# Altium schematic symbol library 传感器和模块.SchLib: 18 symbols
Pins are listed as number, name and electrical type; pins without a type are passive.

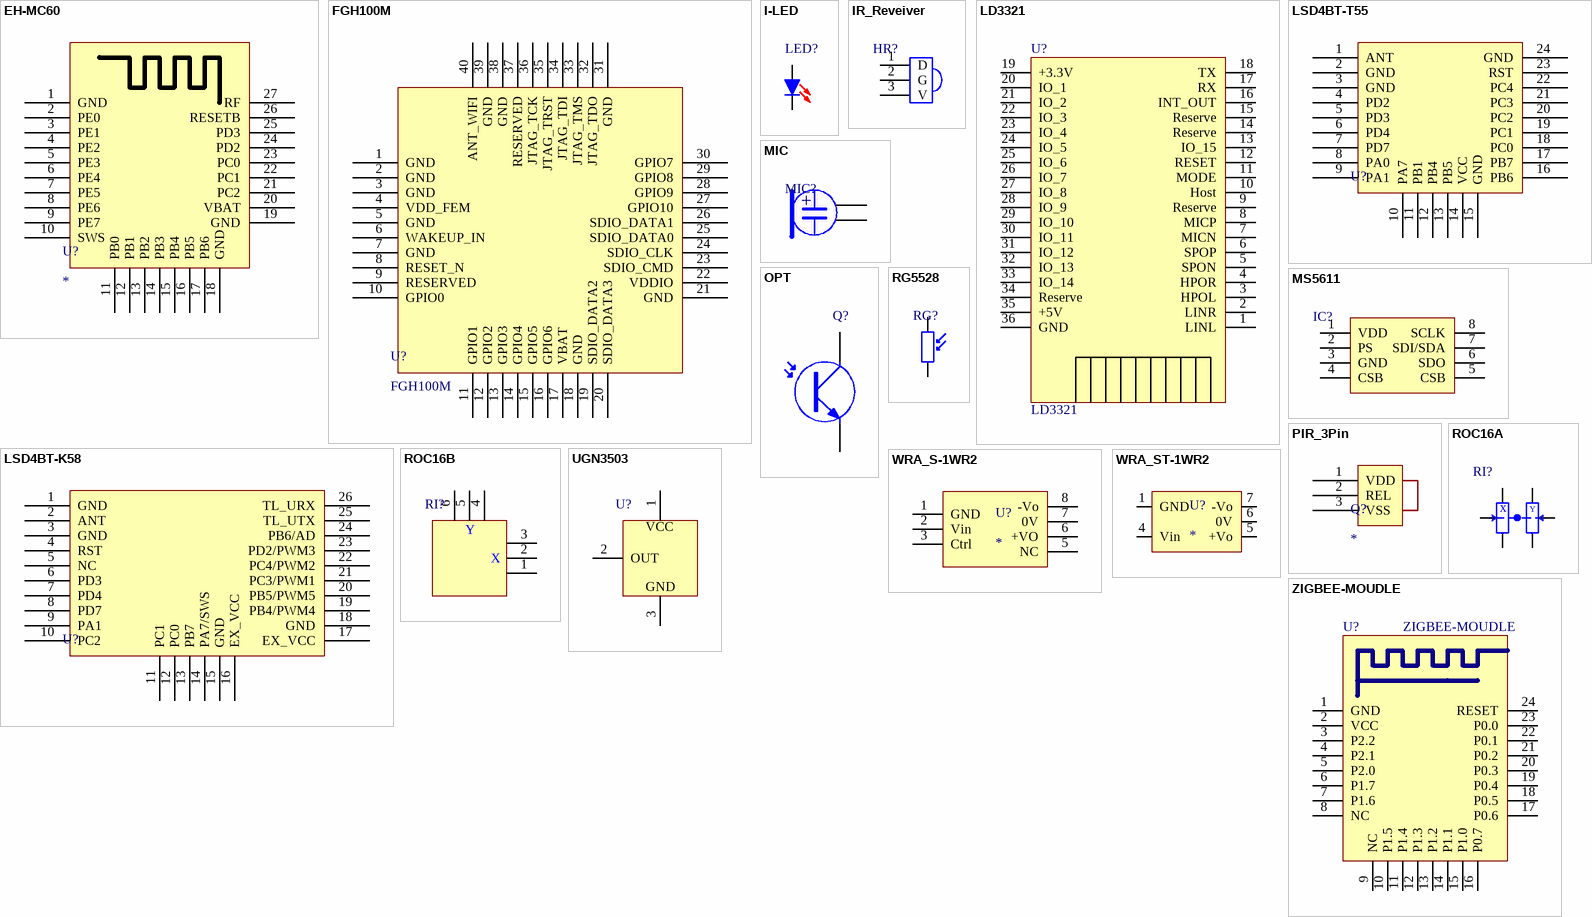
[diagram p0: symbols EH-MC60 to ZIGBEE-MOUDLE]

## EH-MC60
designator U?
footprint EH-MC60
pins: 1 GND, 2 PE0, 3 PE1, 4 PE2, 5 PE3, 6 PE4, 7 PE5, 8 PE6, 9 PE7, 10 SWS, 11 PB0, 12 PB1, 13 PB2, 14 PB3, 15 PB4, 16 PB5, 17 PB6, 18 GND, 19 GND, 20 VBAT, 21 PC2, 22 PC1, 23 PC0, 24 PD2, 25 PD3, 26 RESETB, 27 RF

## FGH100M
designator U?
footprint LGA_40Pin
pins: 1 GND, 2 GND, 3 GND, 4 VDD_FEM, 5 GND, 6 WAKEUP_IN, 7 GND, 8 RESET_N, 9 RESERVED, 10 GPIO0, 11 GPIO1, 12 GPIO2, 13 GPIO3, 14 GPIO4, 15 GPIO5, 16 GPIO6, 17 VBAT, 18 GND, 19 SDIO_DATA2, 20 SDIO_DATA3, 21 GND, 22 VDDIO, 23 SDIO_CMD, 24 SDIO_CLK, 25 SDIO_DATA0, 26 SDIO_DATA1, 27 GPIO10, 28 GPIO9, 29 GPIO8, 30 GPIO7, 31 GND, 32 JTAG_TDO, 33 JTAG_TMS, 34 JTAG_TDI, 35 JTAG_TRST, 36 JTAG_TCK, 37 RESERVED, 38 GND, 39 GND, 40 ANT_WIFI

## I-LED
designator LED?
红外二极管
footprint I-LED-3MM
footprint I-LED-5MM
pins: 1 A, 2 K

## IR_Reveiver
designator HR?
红外接收头
footprint VS1838B-A (一体红外接收头)
footprint VS1838B-B (一体红外接收头)
footprint VS1838B-B_H (卧式一体红外接收头)
footprint VS1838B-A_H (卧式一体红外接收头)
footprint LF0038N (脚距1.27mm)
pins: 1 D "Anode", 2 G "Cathode", 3 V "Emitter"

## LD3321
designator U?
footprint V290Pub
pins: 1 LINL, 2 LINR, 3 HPOL, 4 HPOR, 5 SPON, 6 SPOP, 7 MICN, 8 MICP, 9 Reserve, 10 Host, 11 MODE, 12 RESET, 13 IO_15, 14 Reserve, 15 Reserve, 16 INT_OUT, 17 RX, 18 TX, 19 +3.3V, 20 IO_1, 21 IO_2, 22 IO_3, 23 IO_4, 24 IO_5, 25 IO_6, 26 IO_7, 27 IO_8, 28 IO_9, 29 IO_10, 30 IO_11, 31 IO_12, 32 IO_13, 33 IO_14, 34 Reserve, 35 +5V, 36 GND

## LSD4BT-K58
designator U?
footprint LSD48T-K58
pins: 1 GND, 2 ANT, 3 GND, 4 RST, 5 NC, 6 PD3, 7 PD4, 8 PD7, 9 PA1, 10 PC2, 11 PC1, 12 PC0, 13 PB7, 14 PA7/SWS, 15 GND, 16 EX_VCC, 17 EX_VCC, 18 GND, 19 PB4/PWM4, 20 PB5/PWM5, 21 PC3/PWM1, 22 PC4/PWM2, 23 PD2/PWM3, 24 PB6/AD, 25 TL_UTX, 26 TL_URX

## LSD4BT-T55
designator U?
footprint LSD4BT-T55
pins: 1 ANT, 2 GND, 3 GND, 4 PD2, 5 PD3, 6 PD4, 7 PD7, 8 PA0, 9 PA1, 10 PA7, 11 PB1, 12 PB4, 13 PB5, 14 VCC, 15 GND, 16 PB6, 17 PB7, 18 PC0, 19 PC1, 20 PC2, 21 PC3, 22 PC4, 23 RST, 24 GND

## MIC
designator MIC?
电容麦克风
footprint MIC-4.5X1.9
footprint MIC-6X5.5mm
pins: 1, 2
text: +

## MS5611
designator IC?
气压传感器
footprint MS5611 (气压传感芯片)
pins: 1 VDD, 2 PS, 3 GND, 4 CSB, 5 CSB, 6 SDO, 7 SDI/SDA, 8 SCLK

## OPT
designator Q?
红外接收管
footprint OPT-3MM (3mm红外接收管)
footprint OPT-5MM (5mm红外接收管)
pins: 1, 2

## PIR_3Pin
designator Q?
三脚热释红外传感器
footprint TO-5-3_BD9.1-P2.54-L
pins: 1 VDD (oc), 2 REL (oc), 3 VSS (oc)

## RG5528
designator RG?
光敏电阻
footprint RG5528 (光敏电阻 脚距：3mm)
pins: 1, 2

## ROC16A
designator RI?
摇杆电位器
footprint ROC16 (摇杆电位器，长16mm，宽16mm，高12.2mm)
pins: 1, 2, 3, 4, 5, 6
text: x; Y

## ROC16B
designator RI?
摇杆电位器
footprint ROC16 (摇杆电位器，长16mm，宽16mm，高12.2mm)
pins: 1, 2, 3, 4, 5, 6
text: Y; X

## UGN3503
designator U?
线性霍尔传感器
footprint VS1838B-A (一体红外接收头)
footprint VS1838B-B (一体红外接收头)
footprint VS1838B-B_H (卧式一体红外接收头)
footprint VS1838B-A_H (卧式一体红外接收头)
pins: 1 VCC, 2 OUT, 3 GND

## WRA_S-1WR2
designator U?
footprint WRA_S-1WR2
pins: 1 GND, 2 Vin, 3 Ctrl, 5 NC, 6 +VO, 7 0V, 8 -Vo

## WRA_ST-1WR2
designator U?
footprint WRA_ST-1WR2
pins: 1 GND, 4 Vin, 5 +Vo, 6 0V (oe), 7 -Vo (oe)

## ZIGBEE-MOUDLE
designator U?
footprint ZIGBEE_MOUDLE (Footprint not found)
footprint ZIGBEE-MOUDLE
pins: 1 GND, 2 VCC, 3 P2.2, 4 P2.1, 5 P2.0, 6 P1.7, 7 P1.6, 8 NC, 9 NC, 10 P1.5, 11 P1.4, 12 P1.3, 13 P1.2, 14 P1.1, 15 P1.0, 16 P0.7, 17 P0.6, 18 P0.5, 19 P0.4, 20 P0.3, 21 P0.2, 22 P0.1, 23 P0.0, 24 RESET